# EAGLE library part LM75B (library nxp_60)
Digital temperature sensor and thermal watchdog AAL Eindhoven MK
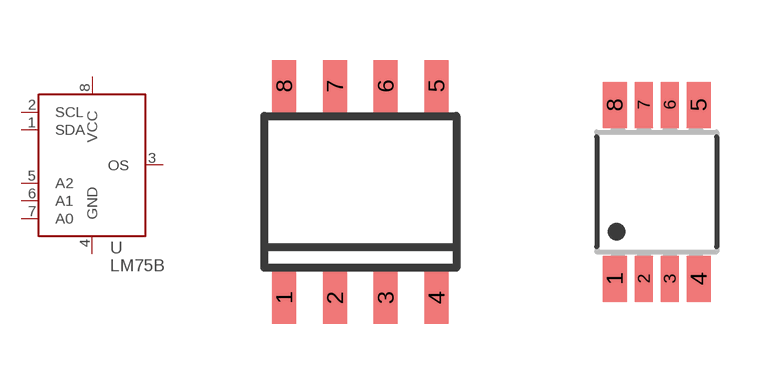
[diagram p80: symbol with the pads of SOT96-1; footprints SOT96-1, SOT505-1]

Designator prefix U

## LM75BD  [SOT96-1]
1  SDA
2  SCL
3  OS  out
4  GND
5  A2  in
6  A1  in
7  A0  in
8  VCC  pwr

## LM75BDP  [SOT505-1]
Pads as for SOT96-1

## LM75BGD  [SOT996-2/3]
Pads as for SOT96-1

## LM75BTP  [SOT1069-2]
Pads as for SOT96-1

## Footprint SOT96-1 (pad centres in mm)
SOT96-1 SO8: plastic small outline package; 8 leads; body width 3.9 mm JEDEC: MS-012 IEC: 076E03
smd 0.6 x 1.3: 1 -1.905,-2.65; 2 -0.635,-2.65; 3 0.635,-2.65; 4 1.905,-2.65; 5 1.905,2.65; 6 0.635,2.65; 7 -0.635,2.65; 8 -1.905,2.65

## Footprint SOT505-1 (pad centres in mm)
SOT505-1 TSSOP8: plastic thin shrink small outline package; 8 leads; body width 3 mm JEDEC: -- IEC: --
smd 0.6 x 1.15: 1 -1.05,-2.175; 4 1.05,-2.175; 5 1.05,2.175; 8 -1.05,2.175
smd 0.45 x 1.15: 2 -0.325,-2.175; 3 0.325,-2.175; 6 0.325,2.175; 7 -0.325,2.175

## Footprint SOT996-2/3 (pad centres in mm)
SOT996-2/3 XSON8U: plastic extremely thin small outline package; no leads;8 terminals; UTLP based; body 3 x 2 x 0.5 mm JEDEC: IEC: -- JEITA: --
smd 0.25 x 1.1: 1 -0.75,-1.45
smd 0.25 x 1: 2 -0.25,-1.5; 3 0.25,-1.5; 4 0.75,-1.5; 5 0.75,1.5; 6 0.25,1.5; 7 -0.25,1.5; 8 -0.75,1.5

## Footprint SOT1069-2 (pad centres in mm)
SOT1069 HWSON8: plastic thermal enhanced very very thin small outline package; no leads;8 terminals; body 2 x 3 x 0.75 mm JEDEC: IEC: -- JEITA: --
smd 0.25 x 0.625: 1 -0.75,-1.413; 2 -0.25,-1.413; 3 0.25,-1.413; 4 0.75,-1.413; 5 0.75,1.413; 6 0.25,1.413; 7 -0.25,1.413; 8 -0.75,1.413
smd 1.6 x 1.6: GP 0,0